# EAGLE library part LPC54114J256BD64 (library wedfestdress)
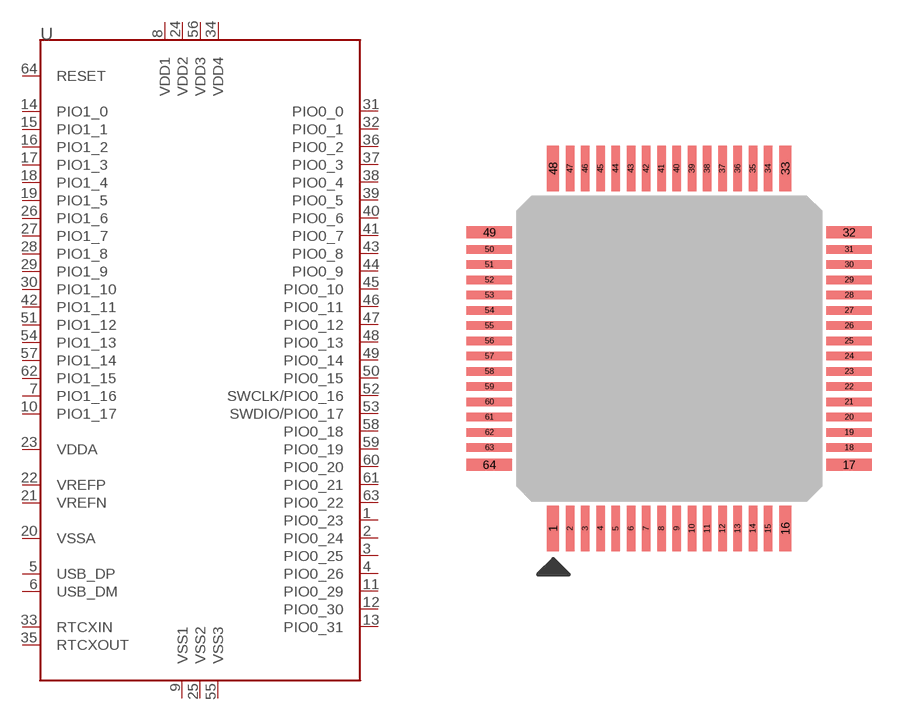
[diagram p5: symbol with the pads of LQFP64_0P5MM_10X10MM; footprint LQFP64_0P5MM_10X10MM]

Designator prefix U

## LPC54114J256BD64 (COST_X1: 7.79; COST_X100: 5.8259; COST_X500: 5.07316; DESCRIPTION: Microcontroller, Cortex M4F + Cortex M0+, 100 MHz, 256 kB flash, 192 kB SRAM; DISPLAY: 256 kB Flash, 192 kB SRAM; DISTRIBUTOR: Digikey; DIST_PART_NO: 568-13034-ND; MFG: NXP; MFG_PART_NO: LPC54114J256BD64QL; PACKAGE: LQFP64)  [LQFP64_0P5MM_10X10MM]
1  PIO0_23
2  PIO0_24
3  PIO0_25
4  PIO0_26
5  USB_DP
6  USB_DM
7  PIO1_16
8  VDD1
9  VSS1
10  PIO1_17
11  PIO0_29
12  PIO0_30
13  PIO0_31
14  PIO1_0
15  PIO1_1
16  PIO1_2
17  PIO1_3
18  PIO1_4
19  PIO1_5
20  VSSA
21  VREFN
22  VREFP
23  VDDA
24  VDD2
25  VSS2
26  PIO1_6
27  PIO1_7
28  PIO1_8
29  PIO1_9
30  PIO1_10
31  PIO0_0
32  PIO0_1
33  RTCXIN
34  VDD4
35  RTCXOUT
36  PIO0_2
37  PIO0_3
38  PIO0_4
39  PIO0_5
40  PIO0_6
41  PIO0_7
42  PIO1_11
43  PIO0_8
44  PIO0_9
45  PIO0_10
46  PIO0_11
47  PIO0_12
48  PIO0_13
49  PIO0_14
50  PIO0_15
51  PIO1_12
52  SWCLK/PIO0_16
53  SWDIO/PIO0_17
54  PIO1_13
55  VSS3
56  VDD3
57  PIO1_14
58  PIO0_18
59  PIO0_19
60  PIO0_20
61  PIO0_21
62  PIO1_15
63  PIO0_22
64  RESET

## Footprint LQFP64_0P5MM_10X10MM (pad centres in mm)
smd 0.4 x 1.5: 1 -3.81,-5.9; 16 3.81,-5.9; 33 3.81,5.9; 48 -3.81,5.9
smd 0.28 x 1.5: 2 -3.25,-5.9; 3 -2.75,-5.9; 4 -2.25,-5.9; 5 -1.75,-5.9; 6 -1.25,-5.9; 7 -0.75,-5.9; 8 -0.25,-5.9; 9 0.25,-5.9; 10 0.75,-5.9; 11 1.25,-5.9; 12 1.75,-5.9; 13 2.25,-5.9; 14 2.75,-5.9; 15 3.25,-5.9; 34 3.25,5.9; 35 2.75,5.9; 36 2.25,5.9; 37 1.75,5.9; 38 1.25,5.9; 39 0.75,5.9; 40 0.25,5.9; 41 -0.25,5.9; 42 -0.75,5.9; 43 -1.25,5.9; 44 -1.75,5.9; 45 -2.25,5.9; 46 -2.75,5.9; 47 -3.25,5.9
smd 1.5 x 0.4: 17 5.9,-3.81; 32 5.9,3.81; 49 -5.9,3.81; 64 -5.9,-3.81
smd 1.5 x 0.28: 18 5.9,-3.25; 19 5.9,-2.75; 20 5.9,-2.25; 21 5.9,-1.75; 22 5.9,-1.25; 23 5.9,-0.75; 24 5.9,-0.25; 25 5.9,0.25; 26 5.9,0.75; 27 5.9,1.25; 28 5.9,1.75; 29 5.9,2.25; 30 5.9,2.75; 31 5.9,3.25; 50 -5.9,3.25; 51 -5.9,2.75; 52 -5.9,2.25; 53 -5.9,1.75; 54 -5.9,1.25; 55 -5.9,0.75; 56 -5.9,0.25; 57 -5.9,-0.25; 58 -5.9,-0.75; 59 -5.9,-1.25; 60 -5.9,-1.75; 61 -5.9,-2.25; 62 -5.9,-2.75; 63 -5.9,-3.25